# Altium schematic symbol library LED_YELLOW.SCHLIB: 1 symbol
Pins are listed as number, name and electrical type; pins without a type are passive.

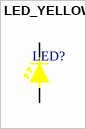
[diagram p0: symbol LED_YELLOW]

## LED_YELLOW
designator LED?
pins: 1 A, 2 C